# Altium schematic symbol library Connect_point.SchLib: 1 symbol
Pins are listed as number, name and electrical type; pins without a type are passive.

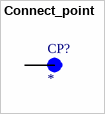
[diagram p0: symbol Connect_point]

## Connect_point
designator CP?
CONNECT POINT; MF: Keystone Electronics; MP: 5277; SnapEDA_Link: https://www.snapeda.com/parts/5277/Keystone+Electronics/view-part/?ref=snap; Package: None; Value: *; Check_prices: https://www.snapeda.com/parts/5277/Keystone+Electronics/view-part/?ref=eda
footprint KEYSTONE_5277
pins: 1 TP